# EAGLE library part PJ202A (library stepOSP)
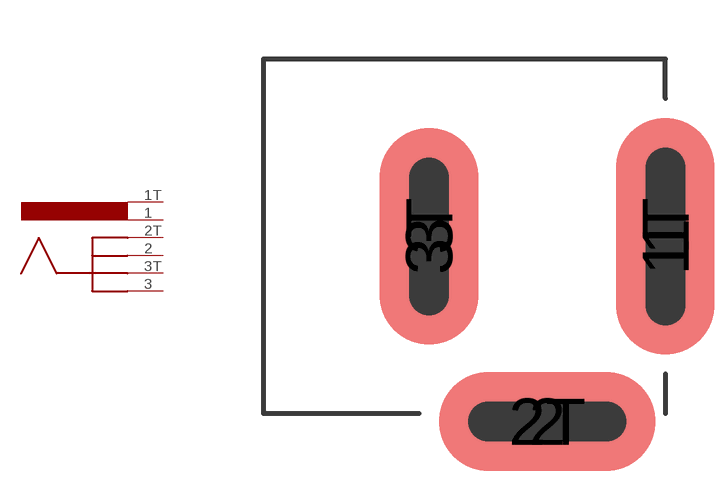
[diagram p9: symbol with the pads of PJ-202A; footprint PJ-202A]

Designator prefix -

## PJ202A  [PJ-202A]
1  5
1T  6
2  3
2T  4
3  1
3T  2

## Footprint PJ-202A (pad centres in mm)
smd 2.5 x 6 bottom: 1 0,0
smd 2.5 x 6: 1T 0,0
smd 5.5 x 2.5 bottom: 2 -3,-4.7
smd 5.5 x 2.5: 2T -3,-4.7
smd 2.5 x 5.5 bottom: 3 -6,0
smd 2.5 x 5.5: 3T -6,0